# Altium schematic symbol library SCH - POWER - LINEAR VREG - TI TLV7011DCK.SchLib: 1 symbol
Pins are listed as number, name and electrical type; pins without a type are passive.

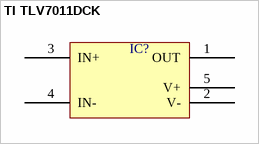
[diagram p0: symbol TI TLV7011DCK]

## TI TLV7011DCK
designator IC?  (value not drawn)
pins: 1 OUT, 2 V-, 3 IN+, 4 IN-, 5 V+